# EAGLE library part 74*161 (library BW-Active)
4 bit counter
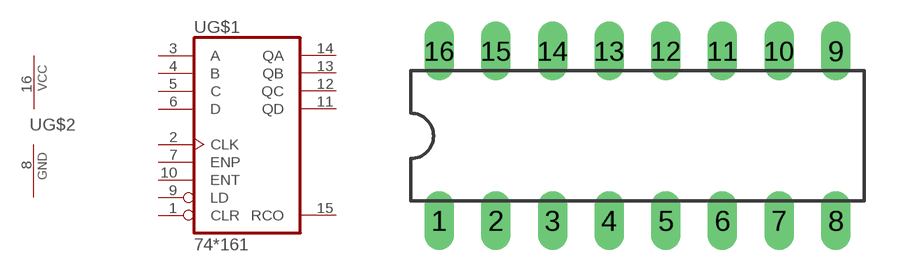
[diagram p41: symbol with the pads of DIL16; footprint DIL16]

Designator prefix U; gates G$1=74161 G$2=PWRN

## 74LS161N  [DIL16]
1  G$1:CLR  in
2  G$1:CLK  in
3  G$1:A  in
4  G$1:B  in
5  G$1:C  in
6  G$1:D  in
7  G$1:ENP  in
8  G$2:GND  pwr
9  G$1:LD  in
10  G$1:ENT  in
11  G$1:QD  out
12  G$1:QC  out
13  G$1:QB  out
14  G$1:QA  out
15  G$1:RCO  out
16  G$2:VCC  pwr

## Footprint DIL16 (pad centres in mm)
Dual In Line Package
drill 0.813 long: 1 -8.89,-3.81; 2 -6.35,-3.81; 3 -3.81,-3.81; 4 -1.27,-3.81; 5 1.27,-3.81; 6 3.81,-3.81; 7 6.35,-3.81; 8 8.89,-3.81; 9 8.89,3.81; 10 6.35,3.81; 11 3.81,3.81; 12 1.27,3.81; 13 -1.27,3.81; 14 -3.81,3.81; 15 -6.35,3.81; 16 -8.89,3.81